# EAGLE library part MAX3490 (library di_ic)
RS485 TRANSEIVER
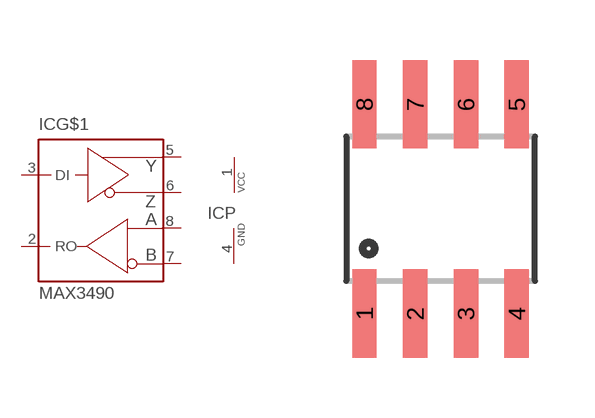
[diagram p27: symbol with the pads of SO08; footprint SO08]

Designator prefix IC; gates G$1=MAX3490 P=VCC-GND

## MAX3490  [SO08]
1  P:VCC  pwr
2  G$1:RO  out
3  G$1:DI  in
4  P:GND  pwr
5  G$1:Y  out
6  G$1:Z  out
7  G$1:B  in
8  G$1:A  in

## Footprint SO08 (pad centres in mm)
Small Outline Package Fits JEDEC packages (narrow SOIC-8)
smd 0.61 x 2.21: 1 -1.905,-2.616; 2 -0.635,-2.616; 3 0.635,-2.616; 4 1.905,-2.616; 5 1.905,2.616; 6 0.635,2.616; 7 -0.635,2.616; 8 -1.905,2.616